# EAGLE library part NCS36000 (library mille-feuille)
Passive Infrared (PIR) Detector Controller ON Semiconductor
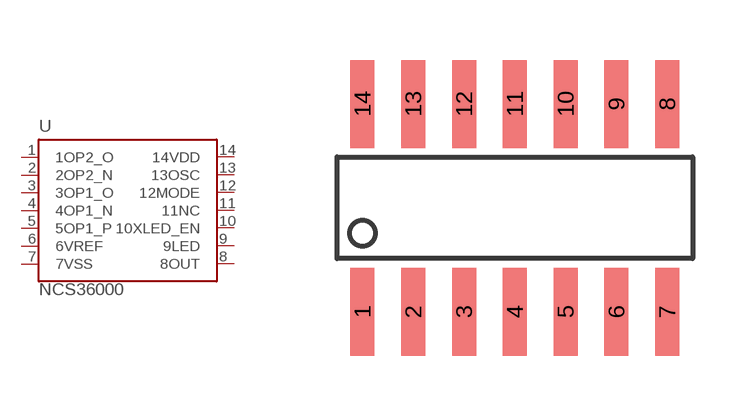
[diagram p12: symbol with the pads of SO-14; footprint SO-14]

Designator prefix U

## NCS36000SOIC14  [SO-14]
1  1OP2_O
2  2OP2_N
3  3OP1_O
4  4OP1_N
5  5OP1_P
6  6VREF
7  7VSS
8  8OUT
9  9LED
10  10XLED_EN
11  11NC
12  12MODE
13  13OSC
14  14VDD

## Footprint SO-14 (pad centres in mm)
smd 0.6 x 2.2: 1 -3.81,-2.6; 2 -2.54,-2.6; 3 -1.27,-2.6; 4 0,-2.6; 5 1.27,-2.6; 6 2.54,-2.6; 7 3.81,-2.6; 8 3.81,2.6; 9 2.54,2.6; 10 1.27,2.6; 11 0,2.6; 12 -1.27,2.6; 13 -2.54,2.6; 14 -3.81,2.6